# EAGLE library part MERP12246GR (library encoder)
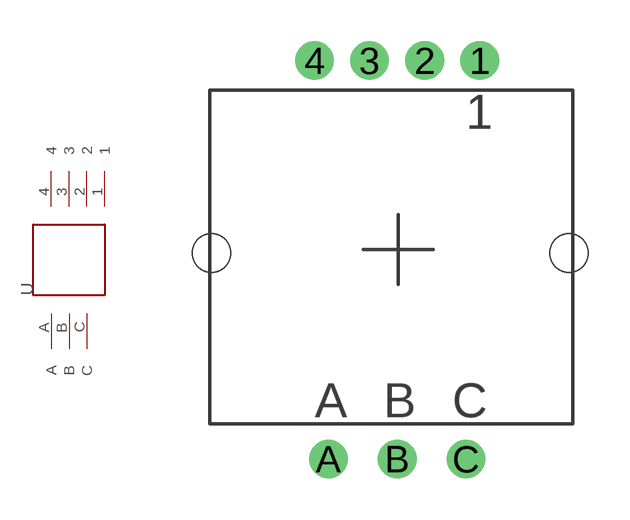
[diagram p0: symbol with the pads of MERP1224126; footprint MERP1224126]

Designator prefix -

## MERP12246GR  [MERP1224126]
1  1
2  2
3  3
4  4
A  A
B  B
C  C

## Footprint MERP1224126 (pad centres in mm)
drill 0.9: 1 5.5,14.5; 2 3.5,14.5; 3 1.5,14.5; 4 -0.5,14.5; A 0,0; B 2.5,0; C 5,0
hole 1.4 at -4.25,7.5
hole 1.4 at 8.75,7.5